# EAGLE library part RCBUS_80_RA (library ef9345)
RC2014 extended bus 80 pin board connector
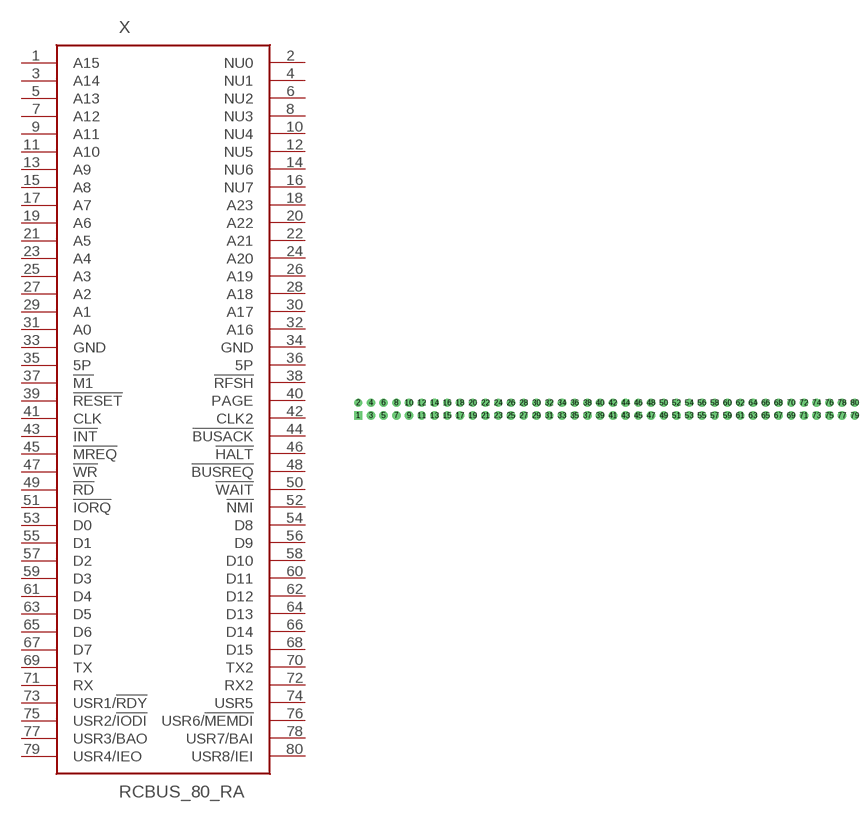
[diagram p5: symbol with the pads of RC2014_80_RA; footprint RC2014_80_RA]

Designator prefix X

## RCBUS_80_RA  [RC2014_80_RA]
1  A15
2  NU0
3  A14
4  NU1
5  A13
6  NU2
7  A12
8  NU3
9  A11
10  NU4
11  A10
12  NU5
13  A9
14  NU6
15  A8
16  NU7
17  A7
18  A23
19  A6
20  A22
21  A5
22  A21
23  A4
24  A20
25  A3
26  A19
27  A2
28  A18
29  A1
30  A17
31  A0
32  A16
33  GND  pwr
34  GND  pwr
35  5P  pwr
36  5P  pwr
37  !M1
38  !RFSH
39  !RESET
40  PAGE
41  CLK
42  CLK2
43  !INT
44  !BUSACK
45  !MREQ
46  !HALT
47  !WR
48  !BUSREQ
49  !RD
50  !WAIT
51  !IORQ
52  !NMI
53  D0
54  D8
55  D1
56  D9
57  D2
58  D10
59  D3
60  D11
61  D4
62  D12
63  D5
64  D13
65  D6
66  D14
67  D7
68  D15
69  TX
70  TX2
71  RX
72  RX2
73  USR1/!RDY
74  USR5
75  USR2/!IODI
76  USR6/!MEMDI
77  USR3/BAO
78  USR7/BAI
79  USR4/IEO
80  USR8/IEI

## Footprint RC2014_80_RA (pad centres in mm)
TSW-140-08-T-D-RA
drill 1.1 pad 1.65 square: 1 0,0
drill 1.1 pad 1.65: 2 0,2.54; 3 2.54,0; 4 2.54,2.54; 5 5.08,0; 6 5.08,2.54; 7 7.62,0; 8 7.62,2.54; 9 10.16,0; 10 10.16,2.54; 11 12.7,0; 12 12.7,2.54; 13 15.24,0; 14 15.24,2.54; 15 17.78,0; 16 17.78,2.54; 17 20.32,0; 18 20.32,2.54; 19 22.86,0; 20 22.86,2.54; 21 25.4,0; 22 25.4,2.54; 23 27.94,0; 24 27.94,2.54; 25 30.48,0; 26 30.48,2.54; 27 33.02,0; 28 33.02,2.54; 29 35.56,0; 30 35.56,2.54; 31 38.1,0; 32 38.1,2.54; 33 40.64,0; 34 40.64,2.54; 35 43.18,0; 36 43.18,2.54; 37 45.72,0; 38 45.72,2.54; 39 48.26,0; 40 48.26,2.54; 41 50.8,0; 42 50.8,2.54; 43 53.34,0; 44 53.34,2.54; 45 55.88,0; 46 55.88,2.54; 47 58.42,0; 48 58.42,2.54; 49 60.96,0; 50 60.96,2.54; 51 63.5,0; 52 63.5,2.54; 53 66.04,0; 54 66.04,2.54; 55 68.58,0; 56 68.58,2.54; 57 71.12,0; 58 71.12,2.54; 59 73.66,0; 60 73.66,2.54; 61 76.2,0; 62 76.2,2.54; 63 78.74,0; 64 78.74,2.54; 65 81.28,0; 66 81.28,2.54; 67 83.82,0; 68 83.82,2.54; 69 86.36,0; 70 86.36,2.54; 71 88.9,0; 72 88.9,2.54; 73 91.44,0; 74 91.44,2.54; 75 93.98,0; 76 93.98,2.54; 77 96.52,0; 78 96.52,2.54; 79 99.06,0; 80 99.06,2.54